# Altium footprint library HGH.PcbLib: 336 footprints (part 17 of 21)
Each footprint in its own frame and in the unit in brackets; x right, y up, seen from the top. Pads: shape width x height; smd on the part's side, far side on the other; paste and mask are expansions set on the pad; w line width, h text height; cw(c..) or ccw(c..) is an arc to the next point about the centre after c.
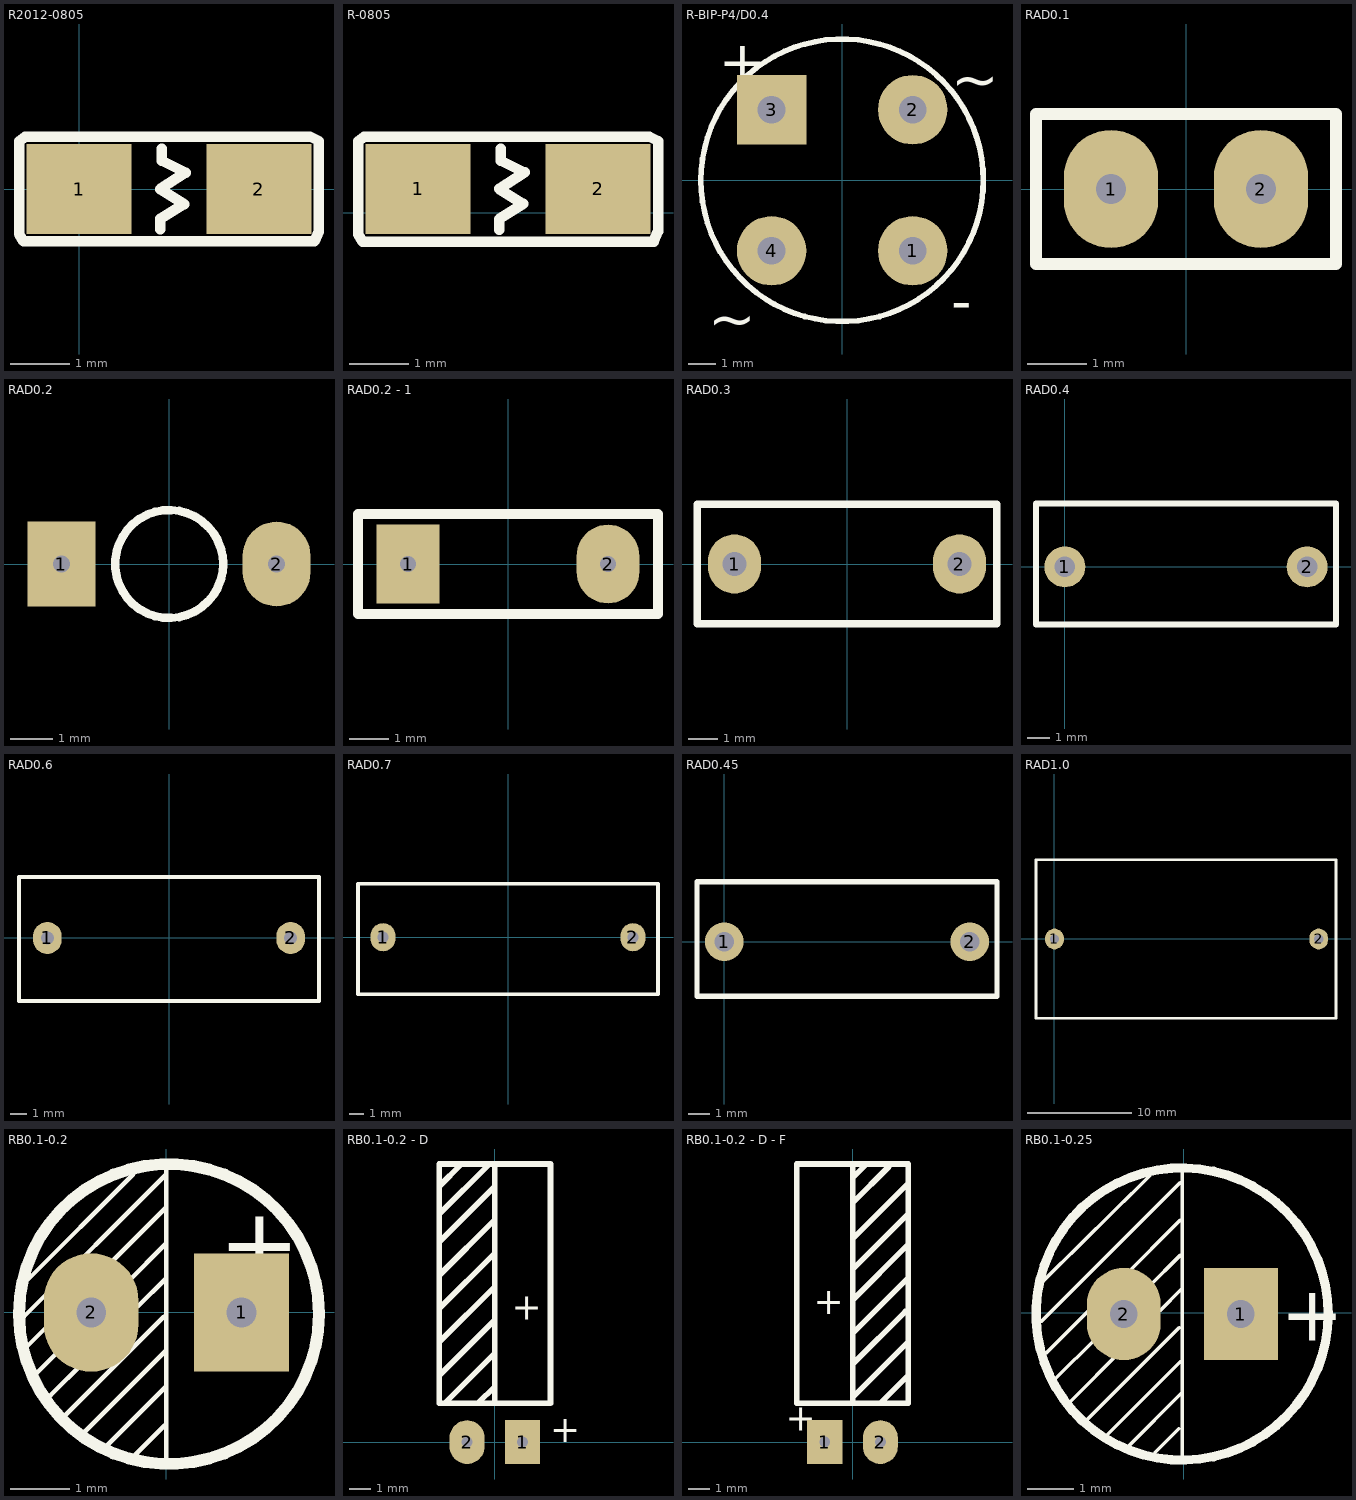
[diagram p16: the footprints below, top view; thin cyan lines are the x and y axes]

## R2012-0805 [mil]
pads (2):
  rect 70x60 smd: 1(0,0) 2(120,0)
Top Overlay:
  lines w7: 54,-27 54,-20 70,-10 54,0 71,11 55,19 55,27 ; -40,-30 -40,32 -36,35 154,35 160,32 160,-28 157,-35 -37,-35 -40,-30

## R-0805 [mil]
pads (2):
  rect 70x60 smd: 1(141.73,15.75) 2(261.73,15.75)
Top Overlay:
  lines w7: 195.73,-11.25 195.73,-4.25 211.73,5.75 195.73,15.75 212.73,26.75 196.73,34.75 196.73,42.75 ; 101.73,-14.25 101.73,47.75 105.73,50.75 295.73,50.75 301.73,47.75 301.73,-12.25 298.73,-19.25 104.73,-19.25 101.73,-14.25

## R-BIP-P4/D0.4 [mm]
pads (4):
  round 2.5 hole 1: 1(2.54,-2.54) 2(2.54,2.54) 4(-2.54,-2.54)
  rect 2.5x2.5 hole 1: 3(-2.54,2.54)
Top Overlay:
  circle w0.2: c0,0 r5.086
  text "+" at -4.445,3.556 h1.5
  text "-" at 3.937,-5.08 h1.5
  text "~" at -4.826,-5.715 h1.5
  text "~" at 3.937,2.921 h1.5

## RAD0.1 [mm]
pads (2):
  oval 1.6x2 hole 0.5: 1(-1.27,0) 2(1.27,0)
Top Overlay:
  lines w0.2: -2.54,-1.27 -2.54,1.27 2.54,1.27 2.54,-1.27 -2.54,-1.27

## RAD0.2 [mm]
pads (2):
  rect 1.6x2 hole 0.4: 1(-2.54,0)
  oval 1.6x2 hole 0.4: 2(2.54,0)
Top Overlay:
  circle w0.2: c0.005,0 r1.275

## RAD0.2 - 1 [mm]
pads (2):
  rect 1.6x2 hole 0.4: 1(-2.54,0)
  oval 1.6x2 hole 0.4: 2(2.54,0)
Top Overlay:
  lines w0.254: -3.81,-1.27 -3.81,1.27 3.81,1.27 3.81,-1.27 -3.81,-1.27

## RAD0.3 [mm]
pads (2):
  oval 1.8x2 hole 0.8: 1(-3.81,0) 2(3.81,0)
Top Overlay:
  lines w0.254: -5.08,-2.032 5.08,-2.032 5.08,2.032 -5.08,2.032 -5.08,-2.032

## RAD0.4 [mm]
pads (2):
  round 1.8 hole 0.9: 1(0,0) 2(10.668,0)
Top Overlay:
  lines w0.254: -1.27,-2.54 11.938,-2.54 11.938,2.794 -1.27,2.794 -1.27,-2.54

## RAD0.6 [mm]
pads (2):
  oval 1.8x2 hole 0.8: 1(-7.62,0) 2(7.62,0)
Top Overlay:
  lines w0.254: 9.398,-3.937 -9.398,-3.937 -9.398,3.81 9.398,3.81 9.398,-3.81

## RAD0.7 [mm]
pads (2):
  oval 1.8x2 hole 0.8: 1(-8.89,0) 2(8.89,0)
Top Overlay:
  lines w0.254: -10.668,-4.064 10.668,-4.064 10.668,3.81 -10.668,3.81 -10.668,-3.937

## RAD0.45 [mm]
pads (2):
  round 1.8 hole 0.9: 1(0,0) 2(11.43,0)
Top Overlay:
  lines w0.254: -1.27,-2.54 -1.27,2.794 12.7,2.794 12.7,-2.54 -1.27,-2.54

## RAD1.0 [mm]
pads (2):
  oval 1.8x2 hole 0.889: 1(0,0) 2(25.4,0)
Top Overlay:
  lines w0.254: -1.778,-7.62 -1.778,7.62 27.068,7.62 27.068,-7.62 -1.778,-7.62

## RB0.1-0.2 [mm]
pads (2):
  rect 1.6x2 hole 0.5: 1(1.27,0)
  oval 1.6x2 hole 0.5: 2(-1.27,0)
Top Overlay:
  circle w0.2: c0.045,-0.025 r2.534
  lines w0.076: -2.413,-0.076 0,2.337 ; -2.362,-0.584 -1.981,-0.203 ; -2.362,0.533 -0.559,2.337 ; -2.21,-1.041 -1.778,-0.61 ; -1.956,-1.397 -1.397,-0.838 ; -1.702,-1.727 -0.046,-0.071 ; -1.397,-2.032 -0.021,-0.656 ; -1.041,0.737 0,1.778 ; -1.016,-2.261 -0.021,-1.265 ; -0.686,0.483 0,1.168 ; -0.533,-2.413 -0.025,-1.905 ; -0.483,0.102 -0.021,0.564 ; 0,-2.489 0,2.413
  text "+" at 0.889,0.584 h1.2

## RB0.1-0.2 - D [mm]
pads (2):
  rect 1.6x2 hole 0.5: 1(1.27,0)
  oval 1.6x2 hole 0.5: 2(-1.27,0)
Top Overlay:
  lines w0.254: -2.54,3.048 0,5.588 0,5.842 ; -2.54,4.572 0,7.112 ; -2.54,6.096 0,8.636 ; -2.54,7.62 0,10.16 ; -2.54,9.144 0,11.684 ; -2.54,10.414 -0.254,12.7 ; -2.54,11.684 -1.524,12.7 ; -2.286,1.778 0,4.064 ; -0.762,1.778 0,2.54 ; 0,12.7 0,1.778 ; 0,1.778 2.54,1.778 2.54,12.7 -2.54,12.7 -2.54,1.778 0,1.778
  text "+" at 0.762,5.588 h1.2
  text "+" at 2.54,0 h1.2

## RB0.1-0.2 - D - F [mm]
pads (2):
  rect 1.6x2 hole 0.5: 1(-1.27,0)
  oval 1.6x2 hole 0.5: 2(1.27,0)
Top Overlay:
  lines w0.254: 0,2.032 2.54,4.572 ; 0,3.556 2.413,5.969 2.54,5.969 ; 0,4.953 2.54,7.493 ; 0,5.588 0,5.842 ; 0,6.477 2.54,9.017 2.54,8.636 ; 0,7.874 2.54,10.414 2.54,10.287 ; 0,9.271 2.54,11.811 2.54,11.938 ; 0,10.922 1.651,12.573 1.651,12.7 ; 0,12.065 0.635,12.7 0.762,12.7 ; 0,12.7 0,1.778 ; 1.27,1.778 2.54,3.048 ; 0,1.778 -2.54,1.778 -2.54,12.7 2.54,12.7 2.54,1.778 0,1.778
  text "+" at -3.048,0.508 h1.2
  text "+" at -1.778,5.842 h1.2

## RB0.1-0.25 [mm]
pads (2):
  rect 1.6x2 hole 0.6: 1(1.245,-0.025)
  oval 1.6x2 hole 0.6: 2(-1.295,-0.025)
Top Overlay:
  circle w0.2: c-0.031,-0.025 r3.169
  lines w0.076: -3.073,-0.178 -0.076,2.819 ; -3.023,0.711 -0.737,2.972 ; -2.972,-0.864 -2.057,0.051 ; -2.769,-1.422 -1.905,-0.559 ; -2.438,-1.905 -1.346,-0.813 ; -2.083,-2.311 -0.097,-0.325 ; -1.651,-2.642 -0.071,-1.062 ; -1.321,0.762 -0.076,2.007 ; -1.194,-2.896 -0.046,-1.748 ; -0.762,0.559 -0.076,1.245 ; -0.61,-3.023 -0.102,-2.515 ; -0.508,0.051 -0.046,0.513 ; -0.025,-3.099 -0.025,3.048
  text "+" at 2.108,-0.61 h1.2